# Altium integrated library ESP8285.IntLib: 1 symbol
Pins are listed as number, name and electrical type; pins without a type are passive.

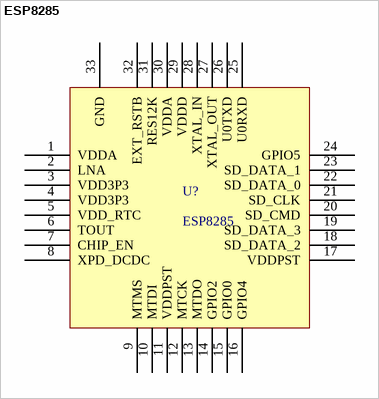
[diagram p0: symbol ESP8285]

## ESP8285
designator U?
ESP8285 Wifi enabled microcontroller
footprint QFN50P500X500X80_HS-33N (QFN, 32-Leads, Body 5.00x5.00mm, Pitch 0.50mm, Thermal Pad 3.70x3.70mm, IPC Medium Density)
pins: 1 VDDA, 2 LNA, 3 VDD3P3, 4 VDD3P3, 5 VDD_RTC, 6 TOUT, 7 CHIP_EN, 8 XPD_DCDC, 9 MTMS, 10 MTDI, 11 VDDPST, 12 MTCK, 13 MTDO, 14 GPIO2, 15 GPIO0, 16 GPIO4, 17 VDDPST, 18 SD_DATA_2, 19 SD_DATA_3, 20 SD_CMD, 21 SD_CLK, 22 SD_DATA_0, 23 SD_DATA_1, 24 GPIO5, 25 U0RXD, 26 U0TXD, 27 XTAL_OUT, 28 XTAL_IN, 29 VDDD, 30 VDDA, 31 RES12K, 32 EXT_RSTB, 33 GND